# Altium schematic symbol library PJ-102B.SchLib: 1 symbol
Pins are listed as number, name and electrical type; pins without a type are passive.

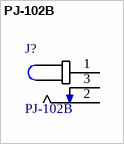
[diagram p0: symbol PJ-102B]

## PJ-102B
designator J?
Value: *
footprint *CUI_PJ-102B
pins: 1, 2, 3